# EAGLE library part CON-2X5P (library Connectors)
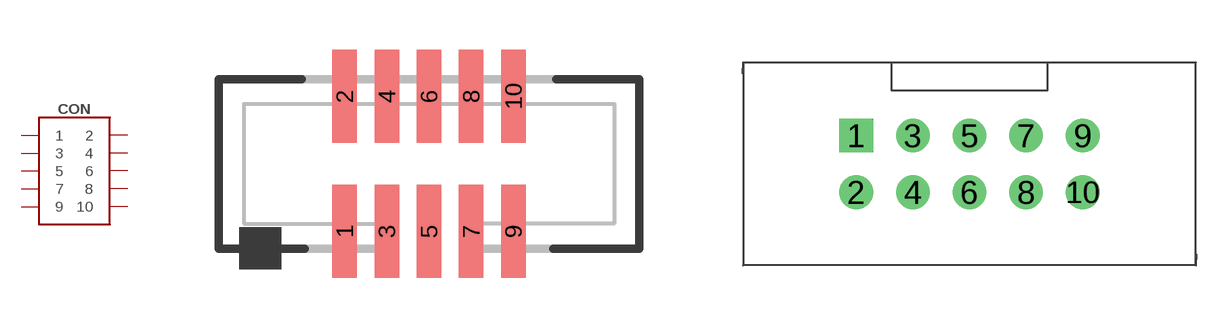
[diagram p4: symbol with the pads of 200215-00010T1LF; footprints 200215-00010T1LF, BH-10]

Designator prefix CON

## CON-2X5P-200215 (DIGIKEY#: 609-4054-ND; MANF: Amphenol ICC (FCI); MANF#: 20021521-00010T1LF)  [200215-00010T1LF]
1  1
2  2
3  3
4  4
5  5
6  6
7  7
8  8
9  9
10  10

## CON-2X5P-BH-10 (MANF: Connfly electronic; MANF#: BH-10)  [BH-10]
Pads as for 200215-00010T1LF

## Footprint 200215-00010T1LF (pad centres in mm)
smd 0.737 x 2.794: 1 -2.54,-2.032; 2 -2.54,2.032; 3 -1.27,-2.032; 4 -1.27,2.032; 5 0,-2.032; 6 0,2.032; 7 1.27,-2.032; 8 1.27,2.032; 9 2.54,-2.032; 10 2.54,2.032

## Footprint BH-10 (pad centres in mm)
drill 1 pad 1.5 square: 1 -5.08,1.27
drill 1 pad 1.5: 2 -5.08,-1.27; 3 -2.54,1.27; 4 -2.54,-1.27; 5 0,1.27; 6 0,-1.27; 7 2.54,1.27; 8 2.54,-1.27; 9 5.08,1.27; 10 5.08,-1.27